# Altium schematic symbol library USBA-1J.SchLib: 1 symbol
Pins are listed as number, name and electrical type; pins without a type are passive.

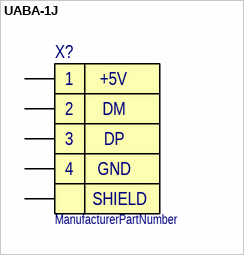
[diagram p0: symbol UABA-1J]

## UABA-1J
designator X?
ManufacturerPartNumber: ManufacturerPartNumber
pins: +5V, DM, DP, GND, SHIELD
1 alternate drawing of the same symbol